# Altium schematic symbol library MOSFET(N-CH, 20V, 2.8A, SOT-23-3).SchLib: 1 symbol
Pins are listed as number, name and electrical type; pins without a type are passive.

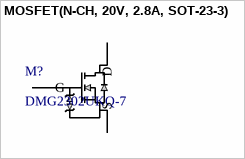
[diagram p0: symbol MOSFET(N-CH, 20V, 2.8A, SOT-23-3)]

## MOSFET(N-CH, 20V, 2.8A, SOT-23-3)
designator M?, comment DMG2302UKQ-7
MOSFET(N-CH, 20V, 2.8A, SOT-23-3); Manufacturer: Diodes Inc; Manufacturer_PN: DMG2302UKQ-7; Package: SOT-23-3; Datasheet: https://www.diodes.com/assets/Datasheets/DMG2302UKQ.pdf; Digikey_Link: https://www.digikey.it/en/products/detail/diodes-incorporated/DMG2302UKQ-7/9769911
footprint SOT23_DMG2302_DIO
pins: 1 G, 2 S, 3 D